# Altium schematic symbol library FERRITE BEADS.SchLib: 9 symbols
Pins are listed as number, name and electrical type; pins without a type are passive.

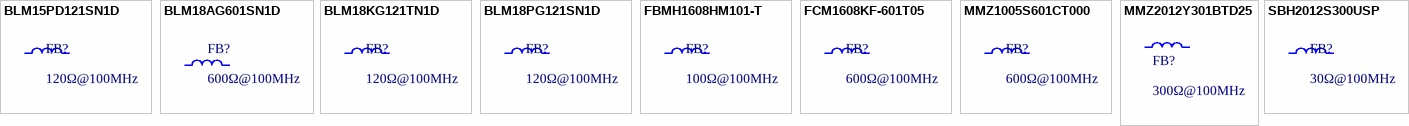
[diagram p0: symbols BLM15PD121SN1D to SBH2012S300USP]

## BLM15PD121SN1D
designator FB?, comment 120Ω@100MHz
90mΩ ±25% 120Ω@100MHz 0402 Ferrite Beads ROHS; Manufacturer: muRata; Mfr.Part #: BLM15PD121SN1D; Package: 0402; LCSC Part #: C76891; DigiKey Part Number: 490-5203-2-ND
footprint FB-0402
pins: 1, 2

## BLM18AG601SN1D
designator FB?, comment 600Ω@100MHz
600Ω@100MHz 1 Line Ferrite Bead 0603 500mA 380mΩ; Manufacturer: muRata; Mfr.Part #: BLM18AG601SN1D; Package: 0603; LCSC Part #: C85831; DigiKey Part Number: 490-1014-2-ND; ComponentLink1Description: Link; ComponentLink1URL: https://www.lcsc.com/product-detail/C19330.html; ComponentLink2Description: Link 1; ComponentLink2URL: https://www.digikey.com/en/products/detail/murata-electronics/BLM18AG601SN1D/584225?s=N4IgTCBcDaIEIBkCyBGAHAQQOIDYAMKAygHIoAiIAugL5A
footprint FB-0603
pins: 1, 2

## BLM18KG121TN1D
designator FB?, comment 120Ω@100MHz
120Ω@100MHz 1 Line Ferrite Bead 0603 3A 30mΩ; Manufacturer: muRata; Mfr.Part #: BLM18KG121TN1D; Package: 0603; LCSC Part #: C85831; DigiKey Part Number: 490-5254-1-ND; ComponentLink1Description: Link; ComponentLink1URL: https://www.lcsc.com/product-detail/C85831.html?s_z=n_C85831; ComponentLink2Description: Link 1; ComponentLink2URL: https://www.digikey.com/en/products/detail/murata-electronics/BLM18KG121TN1D/1982762?s=N4IgTCBcDaICwE4AMBaArGNcUEYUDkAREAXQF8g
footprint FB-0603
pins: 1, 2

## BLM18PG121SN1D
designator FB?, comment 120Ω@100MHz
120Ω@100MHz 1 Line Ferrite Bead 0603 2A 50mΩ; Manufacturer: muRata; Mfr.Part #: BLM18PG121SN1D; Package: 0603; LCSC Part #: C14709; DigiKey Part Number: 490-1037-2-ND; ComponentLink1Description: Link; ComponentLink1URL: https://www.lcsc.com/product-detail/C14709.html?s_z=n_ferrite; ComponentLink2Description: Link 1; ComponentLink2URL: https://www.digikey.com/en/products/detail/murata-electronics/BLM18PG121SN1D/584248?s=N4IgTCBcDaIEIBkCyBGAHABQOIrCgygHIoAiIAugL5A
footprint FB-0603
pins: 1, 2

## FBMH1608HM101-T
designator FB?, comment 100Ω@100MHz
20mΩ ±25% 100Ω@100MHz 0603 Ferrite Beads ROHS; Manufacturer: Taiyo Yuden; Mfr.Part #: FBMH1608HM101-T; Package: 0603; LCSC Part #: C515366
footprint FB-0603
pins: 1, 2

## FCM1608KF-601T05
designator FB?, comment 600Ω@100MHz
500mΩ ±25% 600Ω@100MHz 0603 Ferrite Beads ROHS; Manufacturer: TAI-TECH; Mfr.Part #: FCM1608KF-601T05; Package: 0603; LCSC Part #: C133937
footprint FB-0603
pins: 1, 2

## MMZ1005S601CT000
designator FB?, comment 600Ω@100MHz
520mΩ ±25% 600Ω@100MHz 0402 Ferrite Beads and Chips ROHS; Manufacturer: TDK; Mfr.Part #: MMZ1005S601CT000; Package: 0402; LCSC Part #: C76804
footprint FB-0402
pins: 1, 2

## MMZ2012Y301BTD25
designator FB?, comment 300Ω@100MHz
150mΩ ±25% 300Ω@100MHz 0805 Ferrite Beads ROHS; Manufacturer: TDK; Mfr.Part #: MMZ2012Y301BTD25; Package: 0805; LCSC Part #: C2661775; DigiKey Part Number: 445-MMZ2012Y301BTD25TR-ND
footprint FB-0805
footprint CAP-0805-1
pins: 1, 2

## SBH2012S300USP
designator FB?, comment 30Ω@100MHz
30mΩ ±25% 30Ω@100MHz 0805 Ferrite Beads and Chips ROHS; Manufacturer: Sunltech; Mfr.Part #: SBH2012S300USP; Package: 0805; LCSC Part #: C216148
footprint FB-0805
pins: 1, 2